# EAGLE library part EPM240F100 (library altera_SGQ)
EPM240F100 Auto generated by make-symbol-device-package-bsdl.ulp Rev. 36 Source: EPM240F100.BSD
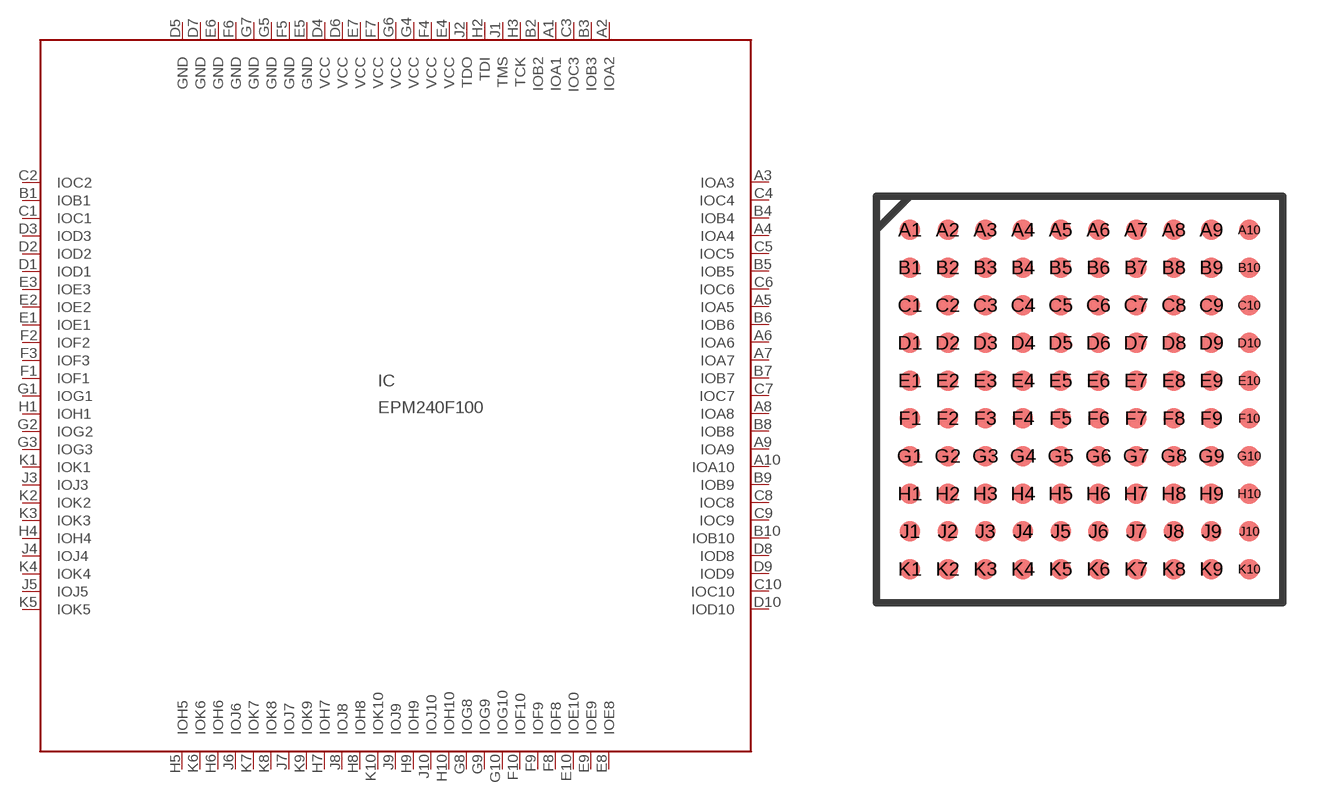
[diagram p55: symbol with the pads of FBGA100; footprint FBGA100]

Designator prefix IC

## EPM240F100 (MPN: SA800-B293; OC_FARNELL: 1635094; OC_NEWARK: 74R0178)  [FBGA100]
A1  IOA1
A2  IOA2
A3  IOA3
A4  IOA4
A5  IOA5
A6  IOA6
A7  IOA7
A8  IOA8
A9  IOA9
A10  IOA10
B1  IOB1
B2  IOB2
B3  IOB3
B4  IOB4
B5  IOB5
B6  IOB6
B7  IOB7
B8  IOB8
B9  IOB9
B10  IOB10
C1  IOC1
C2  IOC2
C3  IOC3
C4  IOC4
C5  IOC5
C6  IOC6
C7  IOC7
C8  IOC8
C9  IOC9
C10  IOC10
D1  IOD1
D2  IOD2
D3  IOD3
D4  VCC  pwr
D5  GND  pwr
D6  VCC  pwr
D7  GND  pwr
D8  IOD8
D9  IOD9
D10  IOD10
E1  IOE1
E2  IOE2
E3  IOE3
E4  VCC  pwr
E5  GND  pwr
E6  GND  pwr
E7  VCC  pwr
E8  IOE8
E9  IOE9
E10  IOE10
F1  IOF1
F2  IOF2
F3  IOF3
F4  VCC  pwr
F5  GND  pwr
F6  GND  pwr
F7  VCC  pwr
F8  IOF8
F9  IOF9
F10  IOF10
G1  IOG1
G2  IOG2
G3  IOG3
G4  VCC  pwr
G5  GND  pwr
G6  VCC  pwr
G7  GND  pwr
G8  IOG8
G9  IOG9
G10  IOG10
H1  IOH1
H2  TDI  in
H3  TCK  in
H4  IOH4
H5  IOH5
H6  IOH6
H7  IOH7
H8  IOH8
H9  IOH9
H10  IOH10
J1  TMS  in
J2  TDO  out
J3  IOJ3
J4  IOJ4
J5  IOJ5
J6  IOJ6
J7  IOJ7
J8  IOJ8
J9  IOJ9
J10  IOJ10
K1  IOK1
K2  IOK2
K3  IOK3
K4  IOK4
K5  IOK5
K6  IOK6
K7  IOK7
K8  IOK8
K9  IOK9
K10  IOK10

## Footprint FBGA100 (pad centres in mm)
EPM240F100 edit this description Auto generated by make-symbol-device-package-bsdl.ulp Rev. 36 Source: EPM240F100.BSD
smd 0.55 x 0.55: A1 -4.5,4.5; A2 -3.5,4.5; A3 -2.5,4.5; A4 -1.5,4.5; A5 -0.5,4.5; A6 0.5,4.5; A7 1.5,4.5; A8 2.5,4.5; A9 3.5,4.5; A10 4.5,4.5; B1 -4.5,3.5; B2 -3.5,3.5; B3 -2.5,3.5; B4 -1.5,3.5; B5 -0.5,3.5; B6 0.5,3.5; B7 1.5,3.5; B8 2.5,3.5; B9 3.5,3.5; B10 4.5,3.5; C1 -4.5,2.5; C2 -3.5,2.5; C3 -2.5,2.5; C4 -1.5,2.5; C5 -0.5,2.5; C6 0.5,2.5; C7 1.5,2.5; C8 2.5,2.5; C9 3.5,2.5; C10 4.5,2.5; D1 -4.5,1.5; D2 -3.5,1.5; D3 -2.5,1.5; D4 -1.5,1.5; D5 -0.5,1.5; D6 0.5,1.5; D7 1.5,1.5; D8 2.5,1.5; D9 3.5,1.5; D10 4.5,1.5; E1 -4.5,0.5; E2 -3.5,0.5; E3 -2.5,0.5; E4 -1.5,0.5; E5 -0.5,0.5; E6 0.5,0.5; E7 1.5,0.5; E8 2.5,0.5; E9 3.5,0.5; E10 4.5,0.5; F1 -4.5,-0.5; F2 -3.5,-0.5; F3 -2.5,-0.5; F4 -1.5,-0.5; F5 -0.5,-0.5; F6 0.5,-0.5; F7 1.5,-0.5; F8 2.5,-0.5; F9 3.5,-0.5; F10 4.5,-0.5; G1 -4.5,-1.5; G2 -3.5,-1.5; G3 -2.5,-1.5; G4 -1.5,-1.5; G5 -0.5,-1.5; G6 0.5,-1.5; G7 1.5,-1.5; G8 2.5,-1.5; G9 3.5,-1.5; G10 4.5,-1.5; H1 -4.5,-2.5; H2 -3.5,-2.5; H3 -2.5,-2.5; H4 -1.5,-2.5; H5 -0.5,-2.5; H6 0.5,-2.5; H7 1.5,-2.5; H8 2.5,-2.5; H9 3.5,-2.5; H10 4.5,-2.5; J1 -4.5,-3.5; J2 -3.5,-3.5; J3 -2.5,-3.5; J4 -1.5,-3.5; J5 -0.5,-3.5; J6 0.5,-3.5; J7 1.5,-3.5; J8 2.5,-3.5; J9 3.5,-3.5; J10 4.5,-3.5; K1 -4.5,-4.5; K2 -3.5,-4.5; K3 -2.5,-4.5; K4 -1.5,-4.5; K5 -0.5,-4.5; K6 0.5,-4.5; K7 1.5,-4.5; K8 2.5,-4.5; K9 3.5,-4.5; K10 4.5,-4.5